# EAGLE library part ZX-EDGE (library tk90)
ZX Spectrum Rear edge connector
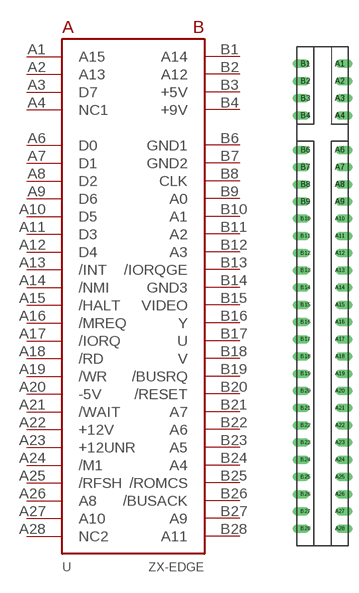
[diagram p2: symbol with the pads of ZX-DIL; footprint ZX-DIL]

Designator prefix -

## ZX-EDGE  [ZX-DIL]
A1  A15  out
A2  A13  out
A3  D7
A4  NC1  nc
A6  D0
A7  D1
A8  D2
A9  D6
A10  D5
A11  D3
A12  D4
A13  /INT  in
A14  /NMI  in
A15  /HALT  in
A16  /MREQ  out
A17  /IORQ  out
A18  /RD  out
A19  /WR  out
A20  -5V
A21  /WAIT  in
A22  +12V  pwr
A23  +12UNR  pwr
A24  /M1  out
A25  /RFSH  out
A26  A8  out
A27  A10  out
A28  NC2  nc
B1  A14  out
B2  A12  out
B3  +5V  pwr
B4  +9V  pwr
B6  GND1
B7  GND2
B8  CLK  out
B9  A0  out
B10  A1  out
B11  A2  out
B12  A3  out
B13  /IORQGE  in
B14  GND3
B15  VIDEO  out
B16  Y  out
B17  U  out
B18  V  out
B19  /BUSRQ  in
B20  /RESET  in
B21  A7  out
B22  A6  out
B23  A5  out
B24  A4  out
B25  /ROMCS  in
B26  /BUSACK  out
B27  A9  out
B28  A11  out

## Footprint ZX-DIL (pad centres in mm)
drill 0.5 pad 1.27 offset: A1 2.54,33.02; A2 2.54,30.48; A3 2.54,27.94; A4 2.54,25.4; A6 2.54,20.32; A7 2.54,17.78; A8 2.54,15.24; A9 2.54,12.7; A10 2.54,10.16; A11 2.54,7.62; A12 2.54,5.08; A13 2.54,2.54; A14 2.54,0; A15 2.54,-2.54; A16 2.54,-5.08; A17 2.54,-7.62; A18 2.54,-10.16; A19 2.54,-12.7; A20 2.54,-15.24; A21 2.54,-17.78; A22 2.54,-20.32; A23 2.54,-22.86; A24 2.54,-25.4; A25 2.54,-27.94; A26 2.54,-30.48; A27 2.54,-33.02; A28 2.54,-35.56; B1 -2.54,33.02; B2 -2.54,30.48; B3 -2.54,27.94; B4 -2.54,25.4; B6 -2.54,20.32; B7 -2.54,17.78; B8 -2.54,15.24; B9 -2.54,12.7; B10 -2.54,10.16; B11 -2.54,7.62; B12 -2.54,5.08; B13 -2.54,2.54; B14 -2.54,0; B15 -2.54,-2.54; B16 -2.54,-5.08; B17 -2.54,-7.62; B18 -2.54,-10.16; B19 -2.54,-12.7; B20 -2.54,-15.24; B21 -2.54,-17.78; B22 -2.54,-20.32; B23 -2.54,-22.86; B24 -2.54,-25.4; B25 -2.54,-27.94; B26 -2.54,-30.48; B27 -2.54,-33.02; B28 -2.54,-35.56